# Altium footprint library Resistors.PcbLib: 65 footprints (part 1 of 5)
Each footprint in its own frame and in the unit in brackets; x right, y up, seen from the top. Pads: shape width x height; smd on the part's side, far side on the other; paste and mask are expansions set on the pad; w line width, h text height; cw(c..) or ccw(c..) is an arc to the next point about the centre after c.
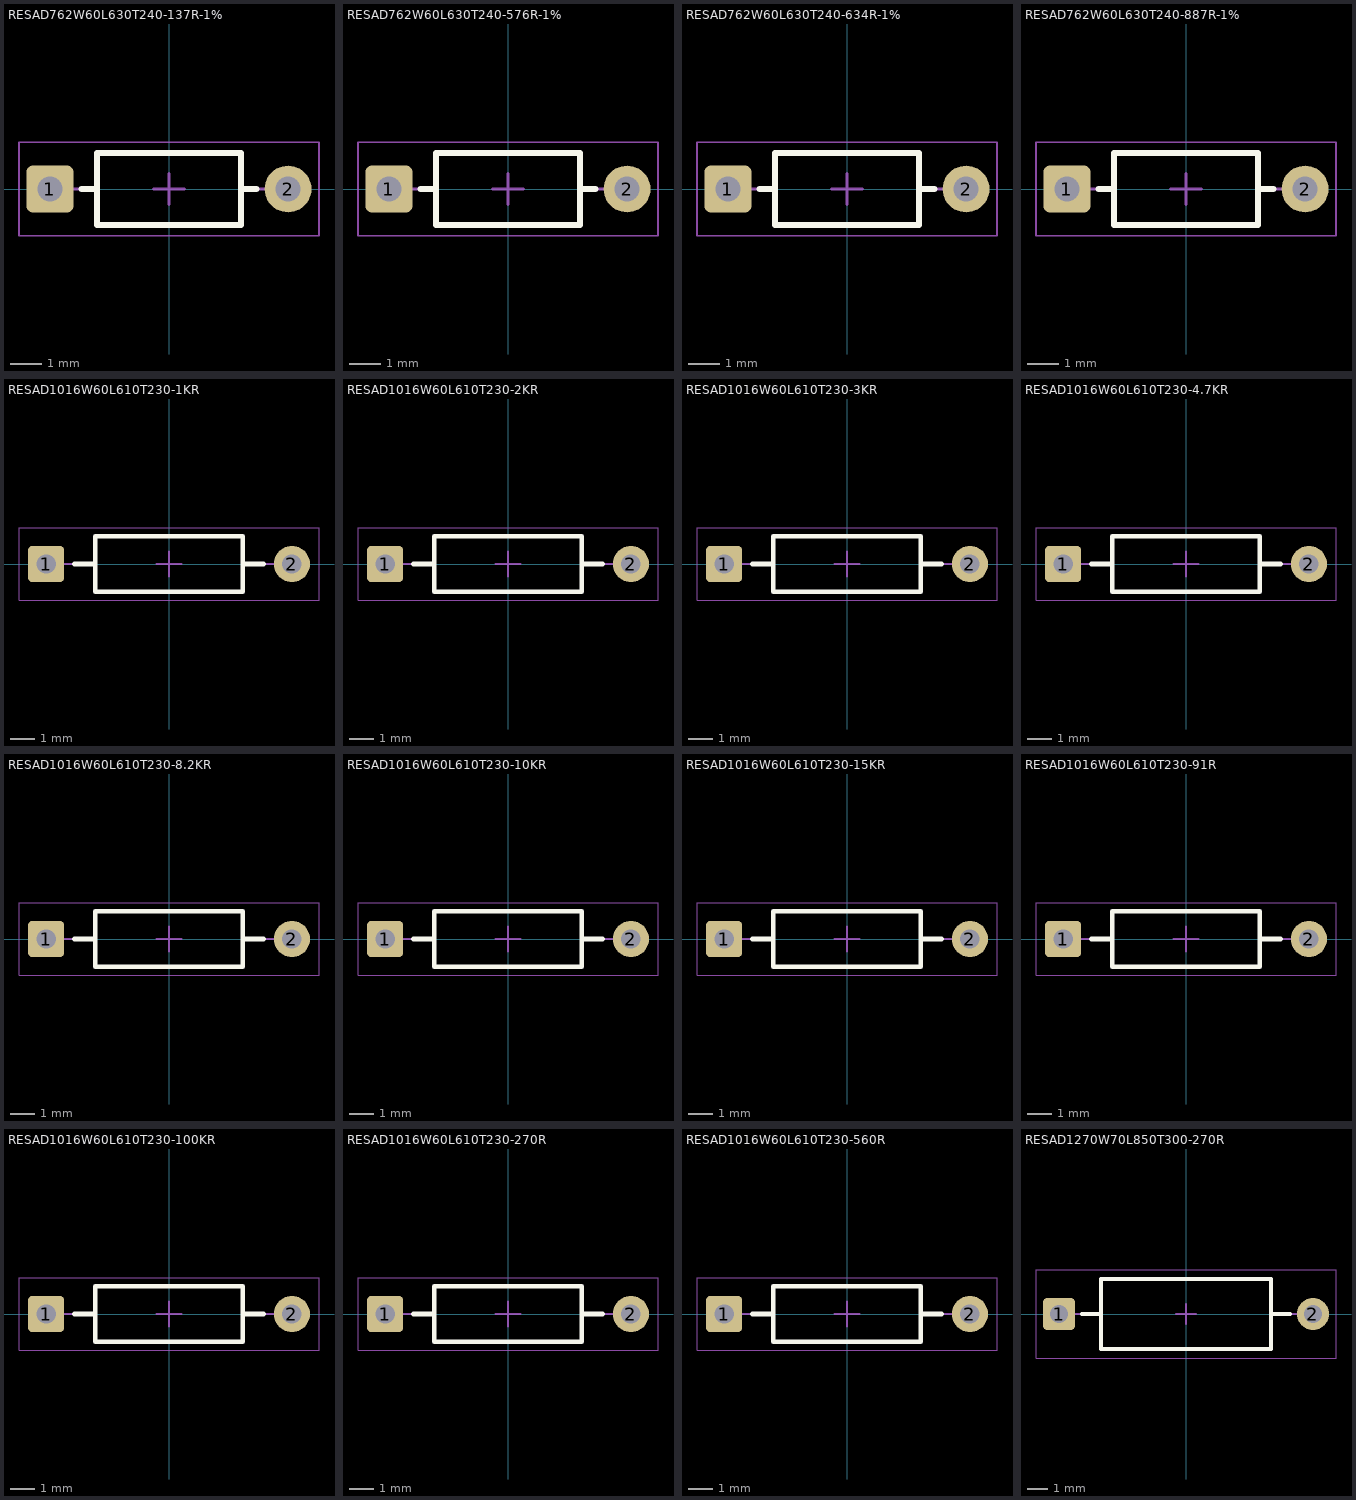
[diagram p0: the footprints below, top view; thin cyan lines are the x and y axes]

## RESAD762W60L630T240-137R-1% [mm] "Resistor, Axial Diameter; Lead Spacing 7.62mm, Lead Width 0.6mm, Body Length 6.30mm, Body Diameter 2.40mm - 137 Ohm 1% Tolerance"
height 2.42
pads (2):
  rrect25% 1.5x1.5 hole 0.8 paste-1000 mask+0.05: 1(-3.81,0)
  round 1.5 hole 0.8 paste-1000 mask+0.05: 2(3.81,0)
Top Overlay:
  lines w0.2: -2.8,0 -2.3,0 ; 2.3,0 2.8,0 ; -2.3,-1.15 -2.3,1.15 2.3,1.15 2.3,-1.15 -2.3,-1.15
Top Component Outline:
  lines w0.1: -2.3,-1.15 2.3,-1.15 2.3,1.15 -2.3,1.15 -2.3,-1.15
Top Courtyard:
  lines w0.05: -4.8,-1.5 -4.8,1.5 4.8,1.5 4.8,-1.5 -4.8,-1.5
Top Component Center:
  lines w0.1: -0.5,0 0.5,0 ; 0,-0.5 0,0.5
Top Designator:
  text ".Designator" at -4.04,-0.476 h2
Top Assembly:
  lines w0.1: -3.8,0 -2.3,0 ; 2.3,0 3.8,0 ; -2.3,-1.15 2.3,-1.15 2.3,1.15 -2.3,1.15 -2.3,-1.15
  text ".Designator" at -4.04,-0.476 h2
3D body: height 2.23, standoff 0.21, extent 1.4,-1.009 1.8,1.009
3D body: height 2.23, standoff 0.21, extent 0.3,-1.009 0.7,1.009
3D body: height 2.23, standoff 0.21, extent -1.8,-1.009 -1.4,1.009
3D body: height 2.23, standoff 0.21, extent -1.1,-1.009 -0.7,1.009
3D body: height 2.23, standoff 0.21, extent -0.4,-1.009 0,1.009
3D body "RESAD762W60L630T240.step": height 2.42, standoff -2.86, extent -4.085,-1.191 4.085,1.191

## RESAD762W60L630T240-576R-1% [mm] "Resistor, Axial Diameter; Lead Spacing 7.62mm, Lead Width 0.6mm, Body Length 6.30mm, Body Diameter 2.40mm - 576 Ohm 1% Tolerance"
height 2.42
pads (2):
  rrect25% 1.5x1.5 hole 0.8 paste-1000 mask+0.05: 1(-3.81,0)
  round 1.5 hole 0.8 paste-1000 mask+0.05: 2(3.81,0)
Top Overlay:
  lines w0.2: -2.8,0 -2.3,0 ; 2.3,0 2.8,0 ; -2.3,-1.15 2.3,-1.15 2.3,1.15 -2.3,1.15 -2.3,-1.15
Top Component Outline:
  lines w0.1: -2.3,-1.15 -2.3,1.15 2.3,1.15 2.3,-1.15 -2.3,-1.15
Top Courtyard:
  lines w0.05: -4.8,-1.5 4.8,-1.5 4.8,1.5 -4.8,1.5 -4.8,-1.5
Top Component Center:
  lines w0.1: -0.5,0 0.5,0 ; 0,-0.5 0,0.5
Top Designator:
  text ".Designator" at -4.04,-0.476 h2
Top Assembly:
  lines w0.1: -3.8,0 -2.3,0 ; 2.3,0 3.8,0 ; -2.3,-1.15 -2.3,1.15 2.3,1.15 2.3,-1.15 -2.3,-1.15
  text ".Designator" at -4.04,-0.476 h2
3D body "RESAD762W60L630T240.step": height 2.42, standoff -2.86, extent -4.085,-1.191 4.085,1.191
3D body: height 2.23, standoff 0.21, extent -0.4,-1.009 0,1.009
3D body: height 2.23, standoff 0.21, extent -1.1,-1.009 -0.7,1.009
3D body: height 2.23, standoff 0.21, extent -1.8,-1.009 -1.4,1.009
3D body: height 2.23, standoff 0.21, extent 0.3,-1.009 0.7,1.009
3D body: height 2.23, standoff 0.21, extent 1.4,-1.009 1.8,1.009

## RESAD762W60L630T240-634R-1% [mm] "Resistor, Axial Diameter; Lead Spacing 7.62mm, Lead Width 0.6mm, Body Length 6.30mm, Body Diameter 2.40mm - 634 Ohm 1% Tolerance"
height 2.42
pads (2):
  rrect25% 1.5x1.5 hole 0.8 paste-1000 mask+0.05: 1(-3.81,0)
  round 1.5 hole 0.8 paste-1000 mask+0.05: 2(3.81,0)
Top Overlay:
  lines w0.2: -2.8,0 -2.3,0 ; 2.3,0 2.8,0 ; -2.3,-1.15 2.3,-1.15 2.3,1.15 -2.3,1.15 -2.3,-1.15
Top Component Outline:
  lines w0.1: -2.3,-1.15 -2.3,1.15 2.3,1.15 2.3,-1.15 -2.3,-1.15
Top Courtyard:
  lines w0.05: -4.8,-1.5 4.8,-1.5 4.8,1.5 -4.8,1.5 -4.8,-1.5
Top Component Center:
  lines w0.1: -0.5,0 0.5,0 ; 0,-0.5 0,0.5
Top Designator:
  text ".Designator" at -4.04,-0.476 h2
Top Assembly:
  lines w0.1: -3.8,0 -2.3,0 ; 2.3,0 3.8,0 ; -2.3,-1.15 -2.3,1.15 2.3,1.15 2.3,-1.15 -2.3,-1.15
  text ".Designator" at -4.04,-0.476 h2
3D body "RESAD762W60L630T240.step": height 2.42, standoff -2.86, extent -4.085,-1.191 4.085,1.191
3D body: height 2.23, standoff 0.21, extent -0.4,-1.009 0,1.009
3D body: height 2.23, standoff 0.21, extent -1.1,-1.009 -0.7,1.009
3D body: height 2.23, standoff 0.21, extent -1.8,-1.009 -1.4,1.009
3D body: height 2.23, standoff 0.21, extent 0.3,-1.009 0.7,1.009
3D body: height 2.23, standoff 0.21, extent 1.4,-1.009 1.8,1.009

## RESAD762W60L630T240-887R-1% [mm] "Resistor, Axial Diameter; Lead Spacing 7.62mm, Lead Width 0.6mm, Body Length 6.30mm, Body Diameter 2.40mm - 887 Ohm 1% Tolerance"
height 2.42
pads (2):
  rrect25% 1.5x1.5 hole 0.8 paste-1000 mask+0.05: 1(-3.81,0)
  round 1.5 hole 0.8 paste-1000 mask+0.05: 2(3.81,0)
Top Overlay:
  lines w0.2: -2.8,0 -2.3,0 ; 2.3,0 2.8,0 ; -2.3,-1.15 -2.3,1.15 2.3,1.15 2.3,-1.15 -2.3,-1.15
Top Component Outline:
  lines w0.1: -2.3,-1.15 2.3,-1.15 2.3,1.15 -2.3,1.15 -2.3,-1.15
Top Courtyard:
  lines w0.05: -4.8,-1.5 -4.8,1.5 4.8,1.5 4.8,-1.5 -4.8,-1.5
Top Component Center:
  lines w0.1: -0.5,0 0.5,0 ; 0,-0.5 0,0.5
Top Designator:
  text ".Designator" at -4.04,-0.476 h2
Top Assembly:
  lines w0.1: -3.8,0 -2.3,0 ; 2.3,0 3.8,0 ; -2.3,-1.15 2.3,-1.15 2.3,1.15 -2.3,1.15 -2.3,-1.15
  text ".Designator" at -4.04,-0.476 h2
3D body: height 2.23, standoff 0.21, extent 1.4,-1.009 1.8,1.009
3D body: height 2.23, standoff 0.21, extent 0.3,-1.009 0.7,1.009
3D body: height 2.23, standoff 0.21, extent -1.8,-1.009 -1.4,1.009
3D body: height 2.23, standoff 0.21, extent -1.1,-1.009 -0.7,1.009
3D body: height 2.23, standoff 0.21, extent -0.4,-1.009 0,1.009
3D body "RESAD762W60L630T240.step": height 2.42, standoff -2.86, extent -4.085,-1.191 4.085,1.191

## RESAD1016W60L610T230-1KR [mm] "Resistor, Axial Diameter; Lead Spacing 10.16mm, Lead Width 0.6mm, Body Length 6.10mm, Body Diameter 2.30mm - 1K Ohm"
height 2.3
pads (2):
  rrect25% 1.5x1.5 hole 0.8 paste-1000 mask+0.05: 1(-5.08,0)
  round 1.5 hole 0.8 paste-1000 mask+0.05: 2(5.08,0)
Top Overlay:
  lines w0.2: -3.9,0 -3.05,0 ; 3.05,0 3.9,0 ; -3.05,-1.15 3.05,-1.15 3.05,1.15 -3.05,1.15 -3.05,-1.15
Top Component Outline:
  lines w0.1: -3.05,-1.15 3.05,-1.15 3.05,1.15 -3.05,1.15 -3.05,-1.15
Top Courtyard:
  lines w0.05: -6.2,-1.5 -6.2,1.5 6.2,1.5 6.2,-1.5 -6.2,-1.5
Top Component Center:
  lines w0.1: -0.5,0 0.5,0 ; 0,-0.5 0,0.5
Top Designator:
  text ".Designator" at -4.04,-0.476 h2
Top Assembly:
  lines w0.1: -5.1,0 -3.05,0 ; 3.05,0 5.1,0 ; -3.05,-1.15 3.05,-1.15 3.05,1.15 -3.05,1.15 -3.05,-1.15
  text ".Designator" at -4.04,-0.476 h2
3D body "RESAD1016W60L619T230-1kR.step": height 2.41, standoff -2, extent -5.38,-1.191 5.38,1.191

## RESAD1016W60L610T230-2KR [mm] "Resistor, Axial Diameter; Lead Spacing 10.16mm, Lead Width 0.6mm, Body Length 6.10mm, Body Diameter 2.30mm - 2K Ohm"
height 2.3
pads (2):
  rrect25% 1.5x1.5 hole 0.8 paste-1000 mask+0.05: 1(-5.08,0)
  round 1.5 hole 0.8 paste-1000 mask+0.05: 2(5.08,0)
Top Overlay:
  lines w0.2: -3.9,0 -3.05,0 ; 3.05,0 3.9,0 ; -3.05,-1.15 3.05,-1.15 3.05,1.15 -3.05,1.15 -3.05,-1.15
Top Component Outline:
  lines w0.1: -3.05,-1.15 3.05,-1.15 3.05,1.15 -3.05,1.15 -3.05,-1.15
Top Courtyard:
  lines w0.05: -6.2,-1.5 -6.2,1.5 6.2,1.5 6.2,-1.5 -6.2,-1.5
Top Component Center:
  lines w0.1: -0.5,0 0.5,0 ; 0,-0.5 0,0.5
Top Designator:
  text ".Designator" at -4.04,-0.476 h2
Top Assembly:
  lines w0.1: -5.1,0 -3.05,0 ; 3.05,0 5.1,0 ; -3.05,-1.15 3.05,-1.15 3.05,1.15 -3.05,1.15 -3.05,-1.15
  text ".Designator" at -4.04,-0.476 h2
3D body: height 2.17, standoff 0.26, extent -0.6,-0.956 -0.3,0.956
3D body "RESAD1016W60L619T230-2.2kR.step": height 2.41, standoff -2, extent -5.38,-1.191 5.38,1.191

## RESAD1016W60L610T230-3KR [mm] "Resistor, Axial Diameter; Lead Spacing 10.16mm, Lead Width 0.6mm, Body Length 6.10mm, Body Diameter 2.30mm - 3.3 KOhm"
height 2.3
pads (2):
  rrect25% 1.5x1.5 hole 0.8 paste-1000 mask+0.05: 1(-5.08,0)
  round 1.5 hole 0.8 paste-1000 mask+0.05: 2(5.08,0)
Top Overlay:
  lines w0.2: -3.9,0 -3.05,0 ; 3.05,0 3.9,0 ; -3.05,-1.15 -3.05,1.15 3.05,1.15 3.05,-1.15 -3.05,-1.15
Top Component Outline:
  lines w0.1: -3.05,-1.15 -3.05,1.15 3.05,1.15 3.05,-1.15 -3.05,-1.15
Top Courtyard:
  lines w0.05: -6.2,-1.5 6.2,-1.5 6.2,1.5 -6.2,1.5 -6.2,-1.5
Top Component Center:
  lines w0.1: -0.5,0 0.5,0 ; 0,-0.5 0,0.5
Top Designator:
  text ".Designator" at -4.04,-0.476 h2
Top Assembly:
  lines w0.1: -5.1,0 -3.05,0 ; 3.05,0 5.1,0 ; -3.05,-1.15 -3.05,1.15 3.05,1.15 3.05,-1.15 -3.05,-1.15
  text ".Designator" at -4.04,-0.476 h2
3D body: height 2.17, standoff 0.26, extent -0.6,-0.956 -0.3,0.956
3D body "RESAD1016W60L619T230-3.3kR.step": height 2.41, standoff -2, extent -5.38,-1.191 5.38,1.191

## RESAD1016W60L610T230-4.7KR [mm] "Resistor, Axial Diameter; Lead Spacing 10.16mm, Lead Width 0.6mm, Body Length 6.10mm, Body Diameter 2.30mm - 4.7 KOhm"
height 2.3
pads (2):
  rrect25% 1.5x1.5 hole 0.8 paste-1000 mask+0.05: 1(-5.08,0)
  round 1.5 hole 0.8 paste-1000 mask+0.05: 2(5.08,0)
Top Overlay:
  lines w0.2: -3.9,0 -3.05,0 ; 3.05,0 3.9,0 ; -3.05,-1.15 3.05,-1.15 3.05,1.15 -3.05,1.15 -3.05,-1.15
Top Component Outline:
  lines w0.1: -3.05,-1.15 3.05,-1.15 3.05,1.15 -3.05,1.15 -3.05,-1.15
Top Courtyard:
  lines w0.05: -6.2,-1.5 -6.2,1.5 6.2,1.5 6.2,-1.5 -6.2,-1.5
Top Component Center:
  lines w0.1: -0.5,0 0.5,0 ; 0,-0.5 0,0.5
Top Designator:
  text ".Designator" at -4.04,-0.476 h2
Top Assembly:
  lines w0.1: -5.1,0 -3.05,0 ; 3.05,0 5.1,0 ; -3.05,-1.15 3.05,-1.15 3.05,1.15 -3.05,1.15 -3.05,-1.15
  text ".Designator" at -4.04,-0.476 h2
3D body "RESAD1016W60L619T230-4.7kR.step": height 2.41, standoff -2, extent -5.38,-1.191 5.38,1.191

## RESAD1016W60L610T230-8.2KR [mm] "Resistor, Axial Diameter; Lead Spacing 10.16mm, Lead Width 0.6mm, Body Length 6.10mm, Body Diameter 2.30mm - 8.2K Ohm"
height 2.3
pads (2):
  rrect25% 1.5x1.5 hole 0.8 paste-1000 mask+0.05: 1(-5.08,0)
  round 1.5 hole 0.8 paste-1000 mask+0.05: 2(5.08,0)
Top Overlay:
  lines w0.2: -3.9,0 -3.05,0 ; 3.05,0 3.9,0 ; -3.05,-1.15 -3.05,1.15 3.05,1.15 3.05,-1.15 -3.05,-1.15
Top Component Outline:
  lines w0.1: -3.05,-1.15 -3.05,1.15 3.05,1.15 3.05,-1.15 -3.05,-1.15
Top Courtyard:
  lines w0.05: -6.2,-1.5 6.2,-1.5 6.2,1.5 -6.2,1.5 -6.2,-1.5
Top Component Center:
  lines w0.1: -0.5,0 0.5,0 ; 0,-0.5 0,0.5
Top Designator:
  text ".Designator" at -4.04,-0.476 h2
Top Assembly:
  lines w0.1: -5.1,0 -3.05,0 ; 3.05,0 5.1,0 ; -3.05,-1.15 -3.05,1.15 3.05,1.15 3.05,-1.15 -3.05,-1.15
  text ".Designator" at -4.04,-0.476 h2
3D body "RESAD1016W60L619T230-8.2kR.step": height 2.41, standoff -2, extent -5.38,-1.191 5.38,1.191

## RESAD1016W60L610T230-10KR [mm] "Resistor, Axial Diameter; Lead Spacing 10.16mm, Lead Width 0.6mm, Body Length 6.10mm, Body Diameter 2.30mm - 10K Ohm"
height 2.3
pads (2):
  rrect25% 1.5x1.5 hole 0.8 paste-1000 mask+0.05: 1(-5.08,0)
  round 1.5 hole 0.8 paste-1000 mask+0.05: 2(5.08,0)
Top Overlay:
  lines w0.2: -3.9,0 -3.05,0 ; 3.05,0 3.9,0 ; -3.05,-1.15 -3.05,1.15 3.05,1.15 3.05,-1.15 -3.05,-1.15
Top Component Outline:
  lines w0.1: -3.05,-1.15 -3.05,1.15 3.05,1.15 3.05,-1.15 -3.05,-1.15
Top Courtyard:
  lines w0.05: -6.2,-1.5 6.2,-1.5 6.2,1.5 -6.2,1.5 -6.2,-1.5
Top Component Center:
  lines w0.1: -0.5,0 0.5,0 ; 0,-0.5 0,0.5
Top Designator:
  text ".Designator" at -4.04,-0.476 h2
Top Assembly:
  lines w0.1: -5.1,0 -3.05,0 ; 3.05,0 5.1,0 ; -3.05,-1.15 -3.05,1.15 3.05,1.15 3.05,-1.15 -3.05,-1.15
  text ".Designator" at -4.04,-0.476 h2
3D body "RESAD1016W60L619T230-10kR.step": height 2.41, standoff -2, extent -5.38,-1.191 5.38,1.191

## RESAD1016W60L610T230-15KR [mm] "Resistor, Axial Diameter; Lead Spacing 10.16mm, Lead Width 0.6mm, Body Length 6.10mm, Body Diameter 2.30mm - 15K Ohm"
height 2.3
pads (2):
  rrect25% 1.5x1.5 hole 0.8 paste-1000 mask+0.05: 1(-5.08,0)
  round 1.5 hole 0.8 paste-1000 mask+0.05: 2(5.08,0)
Top Overlay:
  lines w0.2: -3.9,0 -3.05,0 ; 3.05,0 3.9,0 ; -3.05,-1.15 -3.05,1.15 3.05,1.15 3.05,-1.15 -3.05,-1.15
Top Component Outline:
  lines w0.1: -3.05,-1.15 -3.05,1.15 3.05,1.15 3.05,-1.15 -3.05,-1.15
Top Courtyard:
  lines w0.05: -6.2,-1.5 6.2,-1.5 6.2,1.5 -6.2,1.5 -6.2,-1.5
Top Component Center:
  lines w0.1: -0.5,0 0.5,0 ; 0,-0.5 0,0.5
Top Designator:
  text ".Designator" at -4.04,-0.476 h2
Top Assembly:
  lines w0.1: -5.1,0 -3.05,0 ; 3.05,0 5.1,0 ; -3.05,-1.15 -3.05,1.15 3.05,1.15 3.05,-1.15 -3.05,-1.15
  text ".Designator" at -4.04,-0.476 h2
3D body "RESAD1016W60L619T230-15kR.step": height 2.41, standoff -2, extent -5.38,-1.191 5.38,1.191

## RESAD1016W60L610T230-91R [mm] "Resistor, Axial Diameter; Lead Spacing 10.16mm, Lead Width 0.6mm, Body Length 6.10mm, Body Diameter 2.30mm - 100 Ohm"
height 2.3
pads (2):
  rrect25% 1.5x1.5 hole 0.8 paste-1000 mask+0.05: 1(-5.08,0)
  round 1.5 hole 0.8 paste-1000 mask+0.05: 2(5.08,0)
Top Overlay:
  lines w0.2: -3.9,0 -3.05,0 ; 3.05,0 3.9,0 ; -3.05,-1.15 3.05,-1.15 3.05,1.15 -3.05,1.15 -3.05,-1.15
Top Component Outline:
  lines w0.1: -3.05,-1.15 3.05,-1.15 3.05,1.15 -3.05,1.15 -3.05,-1.15
Top Courtyard:
  lines w0.05: -6.2,-1.5 -6.2,1.5 6.2,1.5 6.2,-1.5 -6.2,-1.5
Top Component Center:
  lines w0.1: -0.5,0 0.5,0 ; 0,-0.5 0,0.5
Top Designator:
  text ".Designator" at -4.04,-0.476 h2
Top Assembly:
  lines w0.1: -5.1,0 -3.05,0 ; 3.05,0 5.1,0 ; -3.05,-1.15 3.05,-1.15 3.05,1.15 -3.05,1.15 -3.05,-1.15
  text ".Designator" at -4.04,-0.476 h2
3D body: height 2.17, standoff 0.26, extent 0.3,-0.956 0.6,0.956
3D body: height 2.17, standoff 0.26, extent -1.5,-0.956 -1.2,0.956
3D body: height 2.17, standoff 0.26, extent -0.6,-0.956 -0.3,0.956
3D body "RESAD1016W60L619T230-100R.step": height 2.41, standoff -2, extent -5.38,-1.191 5.38,1.191

## RESAD1016W60L610T230-100KR [mm] "Resistor, Axial Diameter; Lead Spacing 10.16mm, Lead Width 0.6mm, Body Length 6.10mm, Body Diameter 2.30mm - 100K Ohm"
height 2.3
pads (2):
  rrect25% 1.5x1.5 hole 0.8 paste-1000 mask+0.05: 1(-5.08,0)
  round 1.5 hole 0.8 paste-1000 mask+0.05: 2(5.08,0)
Top Overlay:
  lines w0.2: -3.9,0 -3.05,0 ; 3.05,0 3.9,0 ; -3.05,-1.15 -3.05,1.15 3.05,1.15 3.05,-1.15 -3.05,-1.15
Top Component Outline:
  lines w0.1: -3.05,-1.15 -3.05,1.15 3.05,1.15 3.05,-1.15 -3.05,-1.15
Top Courtyard:
  lines w0.05: -6.2,-1.5 6.2,-1.5 6.2,1.5 -6.2,1.5 -6.2,-1.5
Top Component Center:
  lines w0.1: -0.5,0 0.5,0 ; 0,-0.5 0,0.5
Top Designator:
  text ".Designator" at -4.04,-0.476 h2
Top Assembly:
  lines w0.1: -5.1,0 -3.05,0 ; 3.05,0 5.1,0 ; -3.05,-1.15 -3.05,1.15 3.05,1.15 3.05,-1.15 -3.05,-1.15
  text ".Designator" at -4.04,-0.476 h2
3D body "RESAD1016W60L610T230-100KR.step": height 2.41, standoff -2, extent -5.38,-1.191 5.38,1.191

## RESAD1016W60L610T230-270R [mm] "Resistor, Axial Diameter; Lead Spacing 10.16mm, Lead Width 0.6mm, Body Length 6.10mm, Body Diameter 2.30mm - 270 Ohm"
height 2.3
pads (2):
  rrect25% 1.5x1.5 hole 0.8 paste-1000 mask+0.05: 1(-5.08,0)
  round 1.5 hole 0.8 paste-1000 mask+0.05: 2(5.08,0)
Top Overlay:
  lines w0.2: -3.9,0 -3.05,0 ; 3.05,0 3.9,0 ; -3.05,-1.15 -3.05,1.15 3.05,1.15 3.05,-1.15 -3.05,-1.15
Top Component Outline:
  lines w0.1: -3.05,-1.15 -3.05,1.15 3.05,1.15 3.05,-1.15 -3.05,-1.15
Top Courtyard:
  lines w0.05: -6.2,-1.5 6.2,-1.5 6.2,1.5 -6.2,1.5 -6.2,-1.5
Top Component Center:
  lines w0.1: -0.5,0 0.5,0 ; 0,-0.5 0,0.5
Top Designator:
  text ".Designator" at -4.04,-0.476 h2
Top Assembly:
  lines w0.1: -5.1,0 -3.05,0 ; 3.05,0 5.1,0 ; -3.05,-1.15 -3.05,1.15 3.05,1.15 3.05,-1.15 -3.05,-1.15
  text ".Designator" at -4.04,-0.476 h2
3D body "RESAD1016W60L619T230-270R.step": height 2.41, standoff -2, extent -5.38,-1.191 5.38,1.191

## RESAD1016W60L610T230-560R [mm] "Resistor, Axial Diameter; Lead Spacing 10.16mm, Lead Width 0.6mm, Body Length 6.10mm, Body Diameter 2.30mm - 560 Ohm"
height 2.3
pads (2):
  rrect25% 1.5x1.5 hole 0.8 paste-1000 mask+0.05: 1(-5.08,0)
  round 1.5 hole 0.8 paste-1000 mask+0.05: 2(5.08,0)
Top Overlay:
  lines w0.2: -3.9,0 -3.05,0 ; 3.05,0 3.9,0 ; -3.05,-1.15 -3.05,1.15 3.05,1.15 3.05,-1.15 -3.05,-1.15
Top Component Outline:
  lines w0.1: -3.05,-1.15 -3.05,1.15 3.05,1.15 3.05,-1.15 -3.05,-1.15
Top Courtyard:
  lines w0.05: -6.2,-1.5 6.2,-1.5 6.2,1.5 -6.2,1.5 -6.2,-1.5
Top Component Center:
  lines w0.1: -0.5,0 0.5,0 ; 0,-0.5 0,0.5
Top Designator:
  text ".Designator" at -4.04,-0.476 h2
Top Assembly:
  lines w0.1: -5.1,0 -3.05,0 ; 3.05,0 5.1,0 ; -3.05,-1.15 -3.05,1.15 3.05,1.15 3.05,-1.15 -3.05,-1.15
  text ".Designator" at -4.04,-0.476 h2
3D body "RESAD1016W60L619T230-560R.step": height 2.41, standoff -2, extent -5.38,-1.191 5.38,1.191

## RESAD1270W70L850T300-270R [mm] "Resistor, Axial Diameter; Lead Spacing 12.70mm, Lead Width 0.7mm, Body Length 8.50mm, Body Diameter 3mm - 270 Ohm"
height 3
pads (2):
  rrect25% 1.6x1.6 hole 0.9 paste-1000 mask+0.05: 1(-6.35,0)
  round 1.6 hole 0.9 paste-1000 mask+0.05: 2(6.35,0)
Top Overlay:
  lines w0.2: -5.2,0 -4.25,0 ; 4.25,0 5.2,0 ; -4.25,-1.75 -4.25,1.75 4.25,1.75 4.25,-1.75 -4.25,-1.75
Top Component Outline:
  lines w0.1: -4.25,-1.75 -4.25,1.75 4.25,1.75 4.25,-1.75 -4.25,-1.75
Top Courtyard:
  lines w0.05: -7.5,-2.2 7.5,-2.2 7.5,2.2 -7.5,2.2 -7.5,-2.2
Top Component Center:
  lines w0.1: -0.5,0 0.5,0 ; 0,-0.5 0,0.5
Top Designator:
  text ".Designator" at -4.04,-0.476 h2
Top Assembly:
  lines w0.1: -6.3,0 -4.25,0 ; 4.25,0 6.3,0 ; -4.25,-1.75 -4.25,1.75 4.25,1.75 4.25,-1.75 -4.25,-1.75
  text ".Designator" at -4.04,-0.476 h2
3D body "RESAD1270W70L850T300-270R.step": height 3.78, standoff -5.6, extent -6.725,-1.875 6.725,1.875